# Altium footprint library DIODES PTH.PcbLib: 146 footprints (part 7 of 10)
Each footprint in its own frame and in the unit in brackets; x right, y up, seen from the top. Pads: shape width x height; smd on the part's side, far side on the other; paste and mask are expansions set on the pad; w line width, h text height; cw(c..) or ccw(c..) is an arc to the next point about the centre after c.
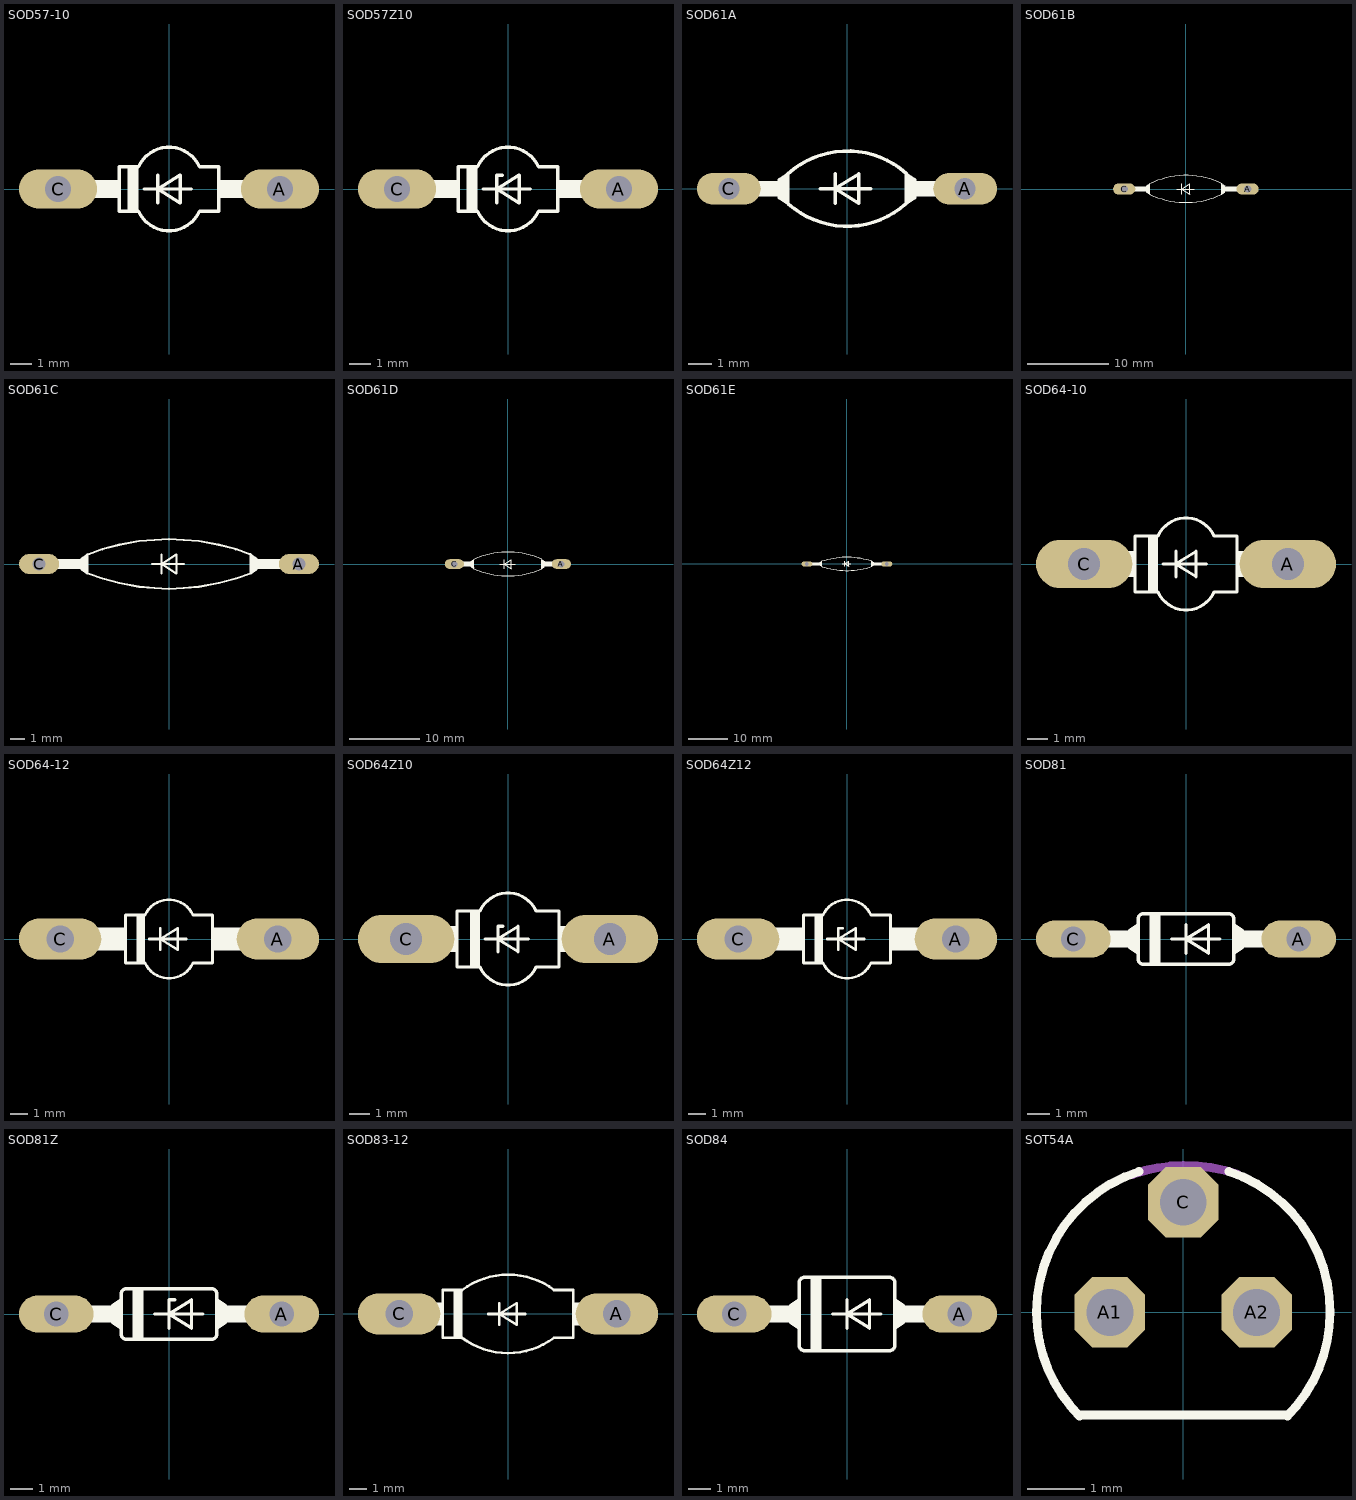
[diagram p6: the footprints below, top view; thin cyan lines are the x and y axes]

## SOD57-10 [mil]
pads (2):
  oval 141x70.5 hole 47: A(200,0) C(-200,0)
Top Overlay:
  rectangle: -75,-40 -55,40
  rectangle: -151,-16 -90,16
  rectangle: 90,-16 151,16
  lines w6: -45,0 -20,0 ; -20,-25 -20,0 ; -20,25 -20,0 ; 40,0 -20,0 ; -20,0 20,-25 20,25 -20,0 ; -90,-40 -90,40 -55,40 cw(c0,15) 55,40 90,40 90,-40 55,-40 cw(c0,-15) -55,-40 -90,-40
Mechanical 16:
  lines w32: -200,0 -150,0 ; 150,0 200,0

## SOD57Z10 [mil]
pads (2):
  oval 141x70.5 hole 47: A(200,0) C(-200,0)
Top Overlay:
  rectangle: -75,-40 -55,40
  rectangle: -151,-16 -90,16
  rectangle: 90,-16 151,16
  lines w6: -45,0 -20,0 ; -20,-25 -20,0 ; -10,25 -20,25 -20,0 ; 40,0 -20,0 ; -20,0 20,-25 20,25 -20,0 ; -90,-40 -90,40 -55,40 cw(c0,15) 55,40 90,40 90,-40 55,-40 cw(c0,-15) -55,-40 -90,-40
Mechanical 16:
  lines w32: -200,0 -150,0 ; 150,0 200,0

## SOD61A [mil]
pads (2):
  oval 108x54 hole 36: A(200,0) C(-200,0)
Top Overlay:
  rectangle: 115,-13 158,13
  rectangle: -158,-13 -115,13
  rectangle: 100,-15 115,15
  rectangle: -115,-15 -100,15
  lines w6: -99.13,-25.79 ccw(c0,85) 100,-25 ; -45,0 -20,0 ; -20,-25 -20,0 ; -20,25 -20,0 ; 40,0 -20,0 ; 100,26 ccw(c0.55,-85.38) -100,25 ; -115,-15 -115,15 ; -115,-15 -100,-25 -100,-20 ; -115,-15 -110,-15 ; -115,15 -100,25 ; -115,15 -110,15 ; -110,-15 -100,-20 ; -110,-15 -100,-15 ; -110,15 -100,20 ; -110,15 -100,15 ; -100,-20 -100,-15 ; -100,-15 -100,15 ; -100,15 -100,20 ; -100,20 -100,25 ; -20,0 20,-25 20,25 -20,0 ; 100,-25 115,-15 ; 100,-25 100,-20 ; 100,-20 110,-15 ; 100,-20 100,-15 ; 100,-15 110,-15 ; 100,-15 100,15 ; 100,15 110,15 ; 100,15 100,20 ; 100,20 110,15 ; 100,20 100,25 115,15 ; 110,-15 115,-15 ; 110,15 115,15 ; 115,-15 115,15
Mechanical 16:
  lines w26: -200,0 -160,0 ; 160,0 200,0

## SOD61B [mil]
pads (2):
  oval 108x54 hole 36: A(300,0) C(-300,0)
Top Overlay:
  rectangle: 175,-15 190,15
  rectangle: -190,-15 -175,15
  rectangle: 190,-13 257,13
  rectangle: -257,-13 -190,13
  lines w6: -174.92,-25.04 ccw(c0,332) 175,-25 ; -45,0 -20,0 ; -20,-25 -20,0 ; -20,25 -20,0 ; 40,0 -20,0 ; 175,26 ccw(c1.02,-331.6) -175,25 ; -190,-15 -190,15 ; -190,-15 -175,-25 -175,-20 ; -190,-15 -185,-15 ; -190,15 -175,25 ; -190,15 -185,15 ; -185,-15 -175,-20 ; -185,-15 -175,-15 ; -185,15 -175,20 ; -185,15 -175,15 ; -175,-20 -175,-15 ; -175,-15 -175,15 ; -175,15 -175,20 ; -175,20 -175,25 ; -20,0 20,-25 20,25 -20,0 ; 175,-25 190,-15 ; 175,-25 175,-20 ; 175,-20 185,-15 ; 175,-20 175,-15 ; 175,-15 185,-15 ; 175,-15 175,15 ; 175,15 185,15 ; 175,15 175,20 ; 175,20 185,15 ; 175,20 175,25 190,15 ; 185,-15 190,-15 ; 185,15 190,15 ; 190,-15 190,15
Mechanical 16:
  lines w26: -300,0 -260,0 ; 260,0 300,0

## SOD61C [mil]
pads (2):
  oval 108x54 hole 36: A(350,0) C(-350,0)
Top Overlay:
  rectangle: -308,-13 -235,13
  rectangle: 235,-13 308,13
  rectangle: -235,-15 -220,15
  rectangle: 220,-15 235,15
  lines w6: -218.5,-25.59 -179.13,-39.37 -133.86,-51.18 -80.71,-61.02 -39.37,-64.96 0,-66.93 40,-64.96 81,-61.02 134,-51.18 180,-39.37 219,-25.59 ; -218.5,26 -179.13,40 -133.86,52 -80.71,62 -39.37,65 0,67 40,65 81,62 134,52 180,40 219,26 ; -45,0 -20,0 ; -20,-25 -20,0 ; -20,25 -20,0 ; 40,0 -20,0 ; -235,-15 -230,-15 ; -235,-15 -220,-25 -220,-20 ; -235,-15 -235,15 ; -235,15 -230,15 ; -235,15 -220,25 -220,20 ; -230,-15 -220,-15 ; -230,-15 -220,-20 ; -230,15 -220,15 ; -230,15 -220,20 ; -220,-20 -220,-15 ; -220,-15 -220,15 ; -220,15 -220,20 ; -20,0 20,25 20,-25 -20,0 ; 220,-20 220,-15 ; 220,-20 230,-15 ; 220,-20 220,-25 235,-15 ; 220,-15 220,15 ; 220,-15 230,-15 ; 220,15 220,20 ; 220,15 230,15 ; 220,20 220,25 235,15 ; 220,20 230,15 ; 230,-15 235,-15 ; 230,15 235,15 ; 235,-15 235,15
Mechanical 16:
  lines w26: -350,0 -310,0 ; 310,0 350,0

## SOD61D [mil]
pads (2):
  oval 108x54 hole 36: A(300,0) C(-300,0)
Top Overlay:
  rectangle: -257,-13 -205,13
  rectangle: 205,-13 257,13
  rectangle: -205,-15 -190,15
  rectangle: 190,-15 205,15
  lines w6: -45,0 -20,0 ; -20,-25 -20,0 ; -20,25 -20,0 ; 40,0 -20,0 ; 190,26 ccw(c1.08,-386.53) -190,25 ; -205,-15 -200,-15 ; -205,-15 -190,-25 ; -205,-15 -205,15 ; -205,15 -200,15 ; -205,15 -190,25 ; -200,-15 -190,-15 ; -200,-15 -190,-20 ; -200,15 -190,15 ; -200,15 -190,20 ; -189.98,-25.01 ccw(c0,387) 190,-25 ; -190,-25 -190,-20 ; -190,-20 -190,-15 ; -190,-15 -190,15 ; -190,15 -190,20 ; -190,20 -190,25 ; -20,0 20,25 20,-25 -20,0 ; 190,-25 190,-20 ; 190,-25 205,-15 ; 190,-20 190,-15 ; 190,-20 200,-15 ; 190,-15 190,15 ; 190,-15 200,-15 ; 190,15 190,20 ; 190,15 200,15 ; 190,20 190,25 205,15 ; 190,20 200,15 ; 200,-15 205,-15 ; 200,15 205,15 ; 205,-15 205,15
Mechanical 16:
  lines w26: -300,0 -260,0 ; 260,0 300,0

## SOD61E [mil]
pads (2):
  oval 108x54 hole 36: A(400,0) C(-400,0)
Top Overlay:
  rectangle: -357,-13 -265,13
  rectangle: 265,-13 357,13
  rectangle: -265,-15 -250,15
  rectangle: 250,-15 265,15
  lines w6: -248.67,-25.45 ccw(c0,717) 250,-25 ; -45,0 -20,0 ; -20,-25 -20,0 ; -20,25 -20,0 ; 40,0 -20,0 ; 249,26 ccw(c0.99,-717.22) -250,25 ; -265,-15 -260,-15 ; -265,-15 -250,-25 -250,-20 ; -265,-15 -265,15 ; -265,15 -260,15 ; -265,15 -250,25 ; -260,-15 -250,-15 ; -260,-15 -250,-20 ; -260,15 -250,15 ; -260,15 -250,20 ; -250,-20 -250,-15 ; -250,-15 -250,15 ; -250,15 -250,20 ; -250,20 -250,25 ; -20,0 20,25 20,-25 -20,0 ; 250,-25 250,-20 ; 250,-25 265,-15 ; 250,-20 250,-15 ; 250,-20 260,-15 ; 250,-15 250,15 ; 250,-15 260,-15 ; 250,15 250,20 ; 250,15 260,15 ; 250,20 250,25 265,15 ; 250,20 260,15 ; 260,-15 265,-15 ; 260,15 265,15 ; 265,-15 265,15
Mechanical 16:
  lines w26: -400,0 -360,0 ; 360,0 400,0

## SOD64-10 [mil]
pads (2):
  oval 189x94.5 hole 63: A(200,0) C(-200,0)
Top Overlay:
  rectangle: -131,-26 -100,26
  rectangle: 100,-26 131,26
  rectangle: -75,-55 -55,55
  lines w6: -45,0 -20,0 ; -20,-25 -20,0 ; -20,25 -20,0 ; 40,0 -20,0 ; -20,0 20,25 20,-25 -20,0 ; -100,-55 -55,-55 ccw(c0,-30) 55,-55 100,-55 100,55 55,55 ccw(c0,30) -55,55 -100,55 -100,-55
Mechanical 16:
  lines w54: -200,0 -140,0 ; 140,0 200,0

## SOD64-12 [mil]
pads (2):
  oval 189x94.5 hole 63: A(250,0) C(-250,0)
Top Overlay:
  rectangle: -180,-26 -100,26
  rectangle: 100,-26 180,26
  rectangle: -75,-55 -55,55
  lines w6: -45,0 -20,0 ; -20,-25 -20,0 ; -20,25 -20,0 ; 40,0 -20,0 ; -20,0 20,25 20,-25 -20,0 ; -100,-55 -55,-55 ccw(c0,-30) 55,-55 100,-55 100,55 55,55 ccw(c0,30) -55,55 -100,55 -100,-55
Mechanical 16:
  lines w54: -250,0 -190,0 ; 190,0 250,0

## SOD64Z10 [mil]
pads (2):
  oval 189x94.5 hole 63: A(200,0) C(-200,0)
Top Overlay:
  rectangle: -75,-55 -55,55
  rectangle: 100,-26 131,26
  rectangle: -131,-26 -100,26
  lines w6: -45,0 -20,0 ; -20,-25 -20,0 ; -10,25 -20,25 -20,0 ; 40,0 -20,0 ; -20,0 20,-25 20,25 -20,0 ; -100,-55 -100,55 -55,55 cw(c0,30) 55,55 100,55 100,-55 55,-55 cw(c0,-30) -55,-55 -100,-55
Mechanical 16:
  lines w54: -200,0 -140,0 ; 140,0 200,0

## SOD64Z12 [mil]
pads (2):
  oval 189x94.5 hole 63: A(250,0) C(-250,0)
Top Overlay:
  rectangle: -180,-26 -100,26
  rectangle: 100,-26 180,26
  rectangle: -75,-55 -55,55
  lines w6: -45,0 -20,0 ; -20,-25 -20,0 ; -10,25 -20,25 -20,0 ; 40,0 -20,0 ; -20,0 20,25 20,-25 -20,0 ; -100,-55 -55,-55 ccw(c0,-30) 55,-55 100,-55 100,55 55,55 ccw(c0,30) -55,55 -100,55 -100,-55
Mechanical 16:
  lines w54: -250,0 -190,0 ; 190,0 250,0

## SOD81 [mil]
pads (2):
  oval 132x66 hole 44: A(200,0) C(-200,0)
Top Overlay:
  rectangle: 85,-15 155,15
  rectangle: -155,-15 -85,15
  rectangle: -65,-45 -45,45
  lines w6: -25,0 0,0 ; 0,-25 0,0 ; 0,25 0,0 ; 60,0 0,0 ; -100,-15 -95,-15 ; -100,-15 -85,-25 ; -100,-15 -100,15 ; -100,15 -95,15 ; -100,15 -85,25 ; -95,-15 -85,-15 ; -95,-15 -85,-20 ; -95,15 -85,15 ; -95,15 -85,20 ; -85,-25 -85,-20 ; -85,-25 -85,-35 ccw(c-75,-35) -75,-45 75,-45 ccw(c75,-35) 85,-35 85,-25 ; -85,-20 -85,-15 ; -85,-15 -85,15 ; -85,15 -85,20 ; -85,20 -85,25 ; -85,25 -85,35 cw(c-75,35) -75,45 75,45 cw(c75,35) 85,35 85,25 ; 0,0 40,25 40,-25 0,0 ; 85,-25 85,-20 ; 85,-25 100,-15 ; 85,-20 85,-15 ; 85,-20 95,-15 ; 85,-15 85,15 ; 85,-15 95,-15 ; 85,15 85,20 ; 85,15 95,15 ; 85,20 85,25 ; 85,20 95,15 ; 85,25 100,15 ; 95,-15 100,-15 ; 95,15 100,15 ; 100,-15 100,15
Mechanical 16:
  lines w30: -200,0 -160,0 ; 160,0 200,0

## SOD81Z [mil]
pads (2):
  oval 132x66 hole 44: A(200,0) C(-200,0)
Top Overlay:
  rectangle: 85,-15 155,15
  rectangle: -155,-15 -85,15
  rectangle: -65,-45 -45,45
  lines w6: -25,0 0,0 ; 0,-25 0,0 ; 10,25 0,25 0,0 ; 60,0 0,0 ; -100,-15 -95,-15 ; -100,-15 -85,-25 ; -100,-15 -100,15 ; -100,15 -95,15 ; -100,15 -85,25 ; -95,-15 -85,-15 ; -95,-15 -85,-20 ; -95,15 -85,15 ; -95,15 -85,20 ; -85,-25 -85,-20 ; -85,-25 -85,-35 ccw(c-75,-35) -75,-45 75,-45 ccw(c75,-35) 85,-35 85,-25 ; -85,-20 -85,-15 ; -85,-15 -85,15 ; -85,15 -85,20 ; -85,20 -85,25 ; -85,25 -85,35 cw(c-75,35) -75,45 75,45 cw(c75,35) 85,35 85,25 ; 0,0 40,25 40,-25 0,0 ; 85,-25 85,-20 ; 85,-25 100,-15 ; 85,-20 85,-15 ; 85,-20 95,-15 ; 85,-15 85,15 ; 85,-15 95,-15 ; 85,15 85,20 ; 85,15 95,15 ; 85,20 85,25 ; 85,20 95,15 ; 85,25 100,15 ; 95,-15 100,-15 ; 95,15 100,15 ; 100,-15 100,15
Mechanical 16:
  lines w30: -200,0 -160,0 ; 160,0 200,0

## SOD83-12 [mil]
pads (2):
  oval 189x94.5 hole 63: A(250,0) C(-250,0)
Top Overlay:
  rectangle: -125,-55 -105,55
  rectangle: 150,-26 182,26
  rectangle: -182,-26 -150,26
  lines w6: -105.67,-54.49 ccw(c0,85) 105,-55 150,-55 150,55 105,55 ; -105,-55 -150,-55 -150,55 -105,55 cw(c0.5,-84.96) 106,55 ; -45,0 -20,0 ; -20,-25 -20,0 ; -20,25 -20,0 ; 40,0 -20,0 ; -20,0 20,-25 20,25 -20,0
Mechanical 16:
  lines w54: -250,0 -190,0 ; 190,0 250,0

## SOD84 [mil]
pads (2):
  oval 132x66 hole 44: A(200,0) C(-200,0)
Top Overlay:
  rectangle: -65,-65 -45,65
  rectangle: 85,-15 155,15
  rectangle: -155,-15 -85,15
  lines w6: -25,0 0,0 ; 0,-25 0,0 ; 0,25 0,0 ; 60,0 0,0 ; -100,-15 -95,-15 ; -100,-15 -85,-25 ; -100,-15 -100,15 ; -100,15 -95,15 ; -100,15 -85,25 ; -95,-15 -85,-15 ; -95,-15 -85,-20 ; -95,15 -85,15 ; -95,15 -85,20 ; -85,-25 -85,-20 ; -85,-25 -85,-55 ccw(c-75,-55) -75,-65 75,-65 ccw(c75,-55) 85,-55 85,-25 ; -85,-20 -85,-15 ; -85,-15 -85,15 ; -85,15 -85,20 ; -85,20 -85,25 ; -85,25 -85,55 cw(c-75,55) -75,65 75,65 cw(c75,55) 85,55 85,25 ; 0,0 40,25 40,-25 0,0 ; 85,-25 85,-20 ; 85,-25 100,-15 ; 85,-20 85,-15 ; 85,-20 95,-15 ; 85,-15 85,15 ; 85,-15 95,-15 ; 85,15 85,20 ; 85,15 95,15 ; 85,20 85,25 ; 85,20 95,15 ; 85,25 100,15 ; 95,-15 100,-15 ; 95,15 100,15 ; 100,-15 100,15
Mechanical 16:
  lines w30: -200,0 -160,0 ; 160,0 200,0

## SOT54A [mil]
pads (3):
  oct 48x48 hole 32: A1(-50,0) A2(50,0) C(0,75)
Top Overlay:
  lines w6: -70.71,-70.71 cw(c0,0) -100,0 cw(c0.44,0.32) -30.11,96 ; -70,-70 70,-70 ; 31,96 cw(c0.01,0.93) 100,0 cw(c0.14,-0.35) 71,-70.71
Mechanical 16:
  lines w6: -34.57,94 cw(c-0.46,0.08) 0,100 cw(c2.51,-1.62) 37,94